# EAGLE library part THS4211 (library texas)
LOW-DISTORTION, HIGH-SPEED, VOLTAGE FEEDBACK AMPLIFIER Source: http://focus.ti.com/lit/ds/symlink/ths4211.pdf
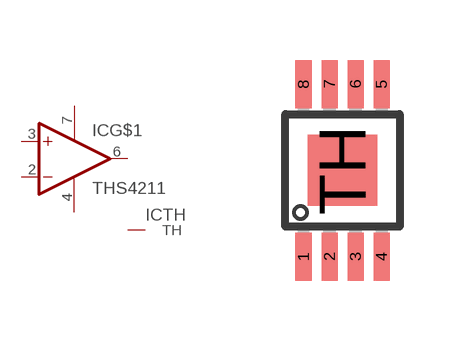
[diagram p29: symbol with the pads of S-PDSO-G08; footprint S-PDSO-G08]

Designator prefix IC; gates G$1=OPAMP+- TH=THERMAL

## THS4211 (MF: TEXAS INSTRUMENT CONNECTORS; MPN: THS4211DGK; OC_FARNELL: 8453306; OC_NEWARK: 95H4489)  [S-PDSO-G08]
2  G$1:-IN  in
3  G$1:+IN  in
4  G$1:V-  pwr
6  G$1:OUT  out
7  G$1:V+  pwr
TH  TH:TH  pas

## Footprint S-PDSO-G08 (pad centres in mm)
DGN (S-PDSO-G8) PowerPAD (TM) Plastic Small-Outline Package Source: http://focus.ti.com/lit/ds/symlink/ths4211.pdf
smd 0.4 x 1.2: 1 -0.975,-2.157; 2 -0.325,-2.157; 3 0.325,-2.157; 4 0.975,-2.157; 5 0.975,2.157; 6 0.325,2.157; 7 -0.325,2.157; 8 -0.975,2.157
smd 1.73 x 1.78: TH 0,0